# Altium schematic symbol library MyLib.SchLib: 14 symbols
Pins are listed as number, name and electrical type; pins without a type are passive.

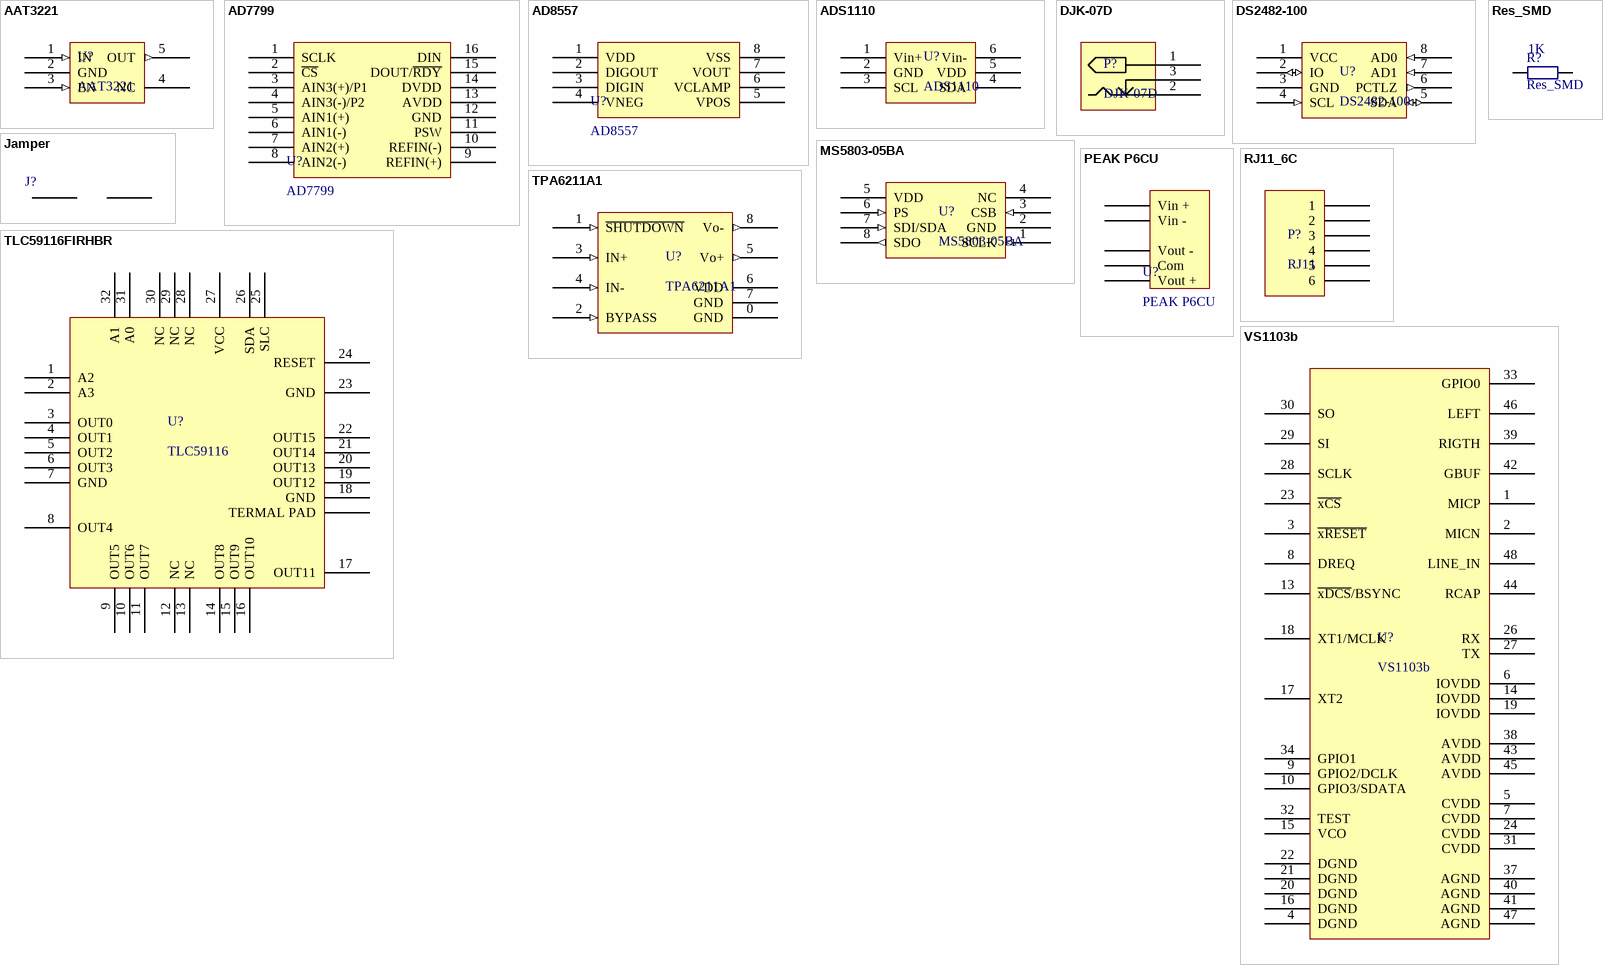
[diagram p0: symbols AAT3221 to VS1103b]

## AAT3221
designator U?
Low Dropout Linear Regulator
footprint SOT23-5 (SOT23, 5-Leads, Body 3,0x3,0mm (max), Pitch 0,95mm, IPC Medium Density)
pins: 1 IN (in), 2 GND (power), 3 EN (in), 4 NC, 5 OUT (out)

## AD7799
designator U?
3-Channel,16-/24-Bit, ADC with On-Chip In-Amp
pins: 1 SCLK, 2 ~{CS}, 3 AIN3(+)/P1, 4 AIN3(-)/P2, 5 AIN1(+), 6 AIN1(-), 7 AIN2(+), 8 AIN2(-), 9 REFIN(+), 10 REFIN(-), 11 PSW, 12 GND, 13 AVDD, 14 DVDD, 15 DOUT/~{RDY}, 16 DIN

## AD8557
designator U?
Digitally Programmable Sensor Signal Amplifier
footprint NSO8_L (8-Pin Small Outline Integrated Circuit 1.27 mm Pitch, IPC High Density)
footprint NSO8_M (8-Pin Small Outline Integrated Circuit 1.27 mm Pitch, IPC Low Density)
footprint NSO8_N (8-Pin Small Outline Integrated Circuit 1.27 mm Pitch, IPC Medium Density)
pins: 1 VDD, 2 DIGOUT, 3 DIGIN, 4 VNEG, 5 VPOS, 6 VCLAMP, 7 VOUT, 8 VSS

## ADS1110
designator U?
16-Bit ANALOG-TO-DIGITAL CONVERTER
footprint SOT-23_A (SOT-457/SC-74; 6 Leads; Body 3.1 x 3 mm, inc. leads (LxW max))
pins: 1 Vin+, 2 GND, 3 SCL, 4 SDA, 5 VDD, 6 Vin-

## DJK-07D
designator P?
DJK-07D Разъем питания штырев. 1,3мм (п) на плату
footprint DJK-07D (Разъем питания штырев. 1,3мм (п) на плату)
pins: 1, 2, 3

## DS2482-100
designator U?
Single-Channel 1-Wire Master
footprint NSO8_L (8-Pin Small Outline Integrated Circuit 1.27 mm Pitch, IPC High Density)
footprint NSO8_M (8-Pin Small Outline Integrated Circuit 1.27 mm Pitch, IPC Low Density)
footprint NSO8_N (8-Pin Small Outline Integrated Circuit 1.27 mm Pitch, IPC Medium Density)
pins: 1 VCC (power), 2 IO (io), 3 GND (power), 4 SCL (in), 5 SDA (io), 6 PCTLZ (out), 7 AD1 (in), 8 AD0 (in)

## Jamper
designator J?  (value not drawn)
footprint Jumper
pins: 1, 2

## MS5803-05BA
designator U?
Miniature Altimeter
pins: 1 SCLK (in), 2 GND, 3 CSB (in), 4 NC, 5 VDD, 6 PS (in), 7 SDI/SDA (in), 8 SDO (out)

## PEAK P6CU
designator U?
1W  dual output DC-DC converter
footprint DIP6 (Connector; Header; 6 Position)
pins: 1 Vin +, 2 Vin -, 3 Vout -, 4 Com, 5 Vout +

## Res_SMD
designator R?  value 1K
Resistor; Published: 8-Jun-2000; LatestRevisionDate: 29-May-2009; LatestRevisionNote: IPC-7351 Footprint Added.; PackageReference: J1-0603; Publisher: Altium Limited; PackageDescription: Chip Resistor
footprint J1-0603 (Chip Resistor, Body 1.6x0.8mm, IPC High Density)
simulation model RESISTOR (Resistor)
signal-integrity model Res
footprint 0402 (Chip Capacitor, Body 1.0x0.5mm, IPC High Density)
footprint 6-0805_N (Chip Resistor, Body 2.0x1.2mm, IPC Medium Density)
pins: 1, 2

## RJ11_6C
designator P?, comment RJ11
RJ11 6pin connector TJ6-6P6C
footprint RJ11_6
pins: 1, 2, 3, 4, 5, 6

## TLC59116FIRHBR
designator U?, comment TLC59116
footprint QFN50P500X500X100-32N (QFN, 32-Leads, Body 4,8x4,8mm (max), Pitch 0,50mm, IPC Medium Density)
pins: 1 A2, 2 A3, 3 OUT0, 4 OUT1, 5 OUT2, 6 OUT3, 7 GND, 8 OUT4, 9 OUT5, 10 OUT6, 11 OUT7, 12 NC, 13 NC, 14 OUT8, 15 OUT9, 16 OUT10, 17 OUT11, 18 GND, 19 OUT12, 20 OUT13, 21 OUT14, 22 OUT15, 23 GND, 24 RESET, 25 SLC, 26 SDA, 27 VCC, 28 NC, 29 NC, 30 NC, 31 A0, 32 A1, 33 TERMAL PAD

## TPA6211A1
designator U?
3.1-W MONO FULLY DIFFERENTIAL AUDIO POWER AMPLIFIER
footprint DRB (S-PVSON-8N) (QFN, 12-Leads, Body 3,2x3,2mm (max), Pitch 0,65mm, IPC Medium Density)
pins: 0 GND (power), 1 ~{SHUTDOWN} (in), 2 BYPASS (in), 3 IN+ (in), 4 IN- (in), 5 Vo+ (out), 6 VDD, 7 GND, 8 Vo- (out)

## VS1103b
designator U?
Sngle-chipMIDI/ADPCM/WAV audio decoder
footprint TQFP48_N (48-Pin Thin Quad Flat Pack 0.5 mm Pitch, IPC Medium Density)
pins: 1 MICP, 2 MICN, 3 ~{xRESET}, 4 DGND, 5 CVDD, 6 IOVDD, 7 CVDD, 8 DREQ, 9 GPIO2/DCLK, 10 GPIO3/SDATA, 13 ~{xDCS}/BSYNC, 14 IOVDD, 15 VCO, 16 DGND, 17 XT2, 18 XT1/MCLK, 19 IOVDD, 20 DGND, 21 DGND, 22 DGND, 23 ~{xCS}, 24 CVDD, 26 RX, 27 TX, 28 SCLK, 29 SI, 30 SO, 31 CVDD, 32 TEST, 33 GPIO0, 34 GPIO1, 37 AGND, 38 AVDD (power), 39 RIGTH, 40 AGND, 41 AGND, 42 GBUF, 43 AVDD (power), 44 RCAP, 45 AVDD (power), 46 LEFT, 47 AGND, 48 LINE_IN